# Altium footprint library module&chips.PcbLib: 65 footprints (part 5 of 5)
Each footprint in its own frame and in the unit in brackets; x right, y up, seen from the top. Pads: shape width x height; smd on the part's side, far side on the other; paste and mask are expansions set on the pad; w line width, h text height; cw(c..) or ccw(c..) is an arc to the next point about the centre after c.
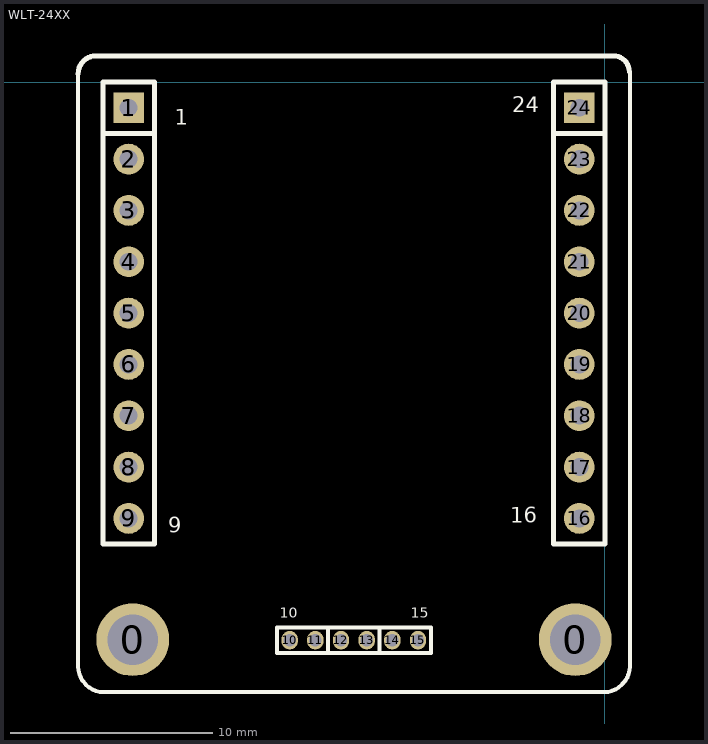
[diagram p4: the footprint, top view; thin cyan lines are the x and y axes]

## WLT-24XX [mil]
pads (26):
  round 141.73 hole 98.43: 0(-920.08,-1086.22) 0(-57.87,-1086.22)
  rect 60x60 hole 35: 1(-927.95,-50) 24(-50,-50)
  round 60 hole 35: 2(-927.95,-150) 3(-927.95,-250) 4(-927.95,-350) 5(-927.95,-450) 6(-927.95,-550) 7(-927.95,-650) 8(-927.95,-750) 9(-927.95,-850) 16(-50,-850) 17(-50,-750) 18(-50,-650) 19(-50,-550) 20(-50,-450) 21(-50,-350) 22(-50,-250) 23(-50,-150)
  oval 32x36 hole 24: 10(-614.32,-1087.26) 11(-564.32,-1087.26) 12(-514.32,-1087.26) 13(-464.31,-1087.26) 14(-414.31,-1087.26) 15(-364.31,-1087.26)
Top Overlay:
  lines w8: -1026.38,16.93 -1026.38,-1138.58 ccw(c-977.81,-1138.58) -1012.15,-1172.93 -1010.72,-1174.36 ccw(c-976.38,-1140.01) -976.38,-1188.58 -1.57,-1188.58 ccw(c-1.57,-1141.38) 31.8,-1174.76 34.6,-1171.96 ccw(c1.22,-1138.58) 48.43,-1138.58 48.43,20.09 ; -539.32,-1112.26 -539.32,-1062.26 ; -439.31,-1112.26 -439.31,-1062.26 ; -639.32,-1112.26 -639.32,-1062.26 -339.31,-1062.26 -339.31,-1112.26 -639.32,-1112.26
  lines w10: -1026.38,16.34 cw(c-991.54,16.34) -991.54,51.19 ; -992.13,51.18 16.35,51.18 cw(c16.35,20.09) 47.44,20.09 ; -977.95,-100 -877.95,-100 ; -100,-100 0,-100 ; -977.95,-900 -877.95,-900 -877.95,0 -977.95,0 -977.95,-900 ; -100,-900 0,-900 0,0 -100,0 -100,-900
  text "16" at -185.04,-858.27 h30
  text "24" at -181.1,-59.06 h30
  text "1" at -838.58,-82.68 h30
  text "9" at -850.39,-877.95 h30
  text "10" at -633.86,-1043.31 h20
  text "15" at -377.95,-1043.31 h20